# EAGLE library part WE-POE_EP10 (library wurth_elektronik_passive_rev16d)
Power over Ethernet Transformer Characteristics Flyback transformer designed for PoE PDs Input voltage: 36 V to 57 V Switching frequencies: 200–500 kHz Operating temperature: –40 ºC to +125 ºC Insulation test voltage: 1.5 kVAC/1 min Different output powers and voltages available Applications Suitable for PoE IC’s like LTC4267, TPS 23750, TPS 23770, LM5070, LM 5071, LM 5072 <http://katalog.we-online.de/media/images/eisos/UtPOE_MID_pf2.jpg> Details see: http://katalog.we-online.de/en/pbs/WE-PoE? Updated by Dan Xu 2014-07-08 2014 (C) Wurth Elektronik
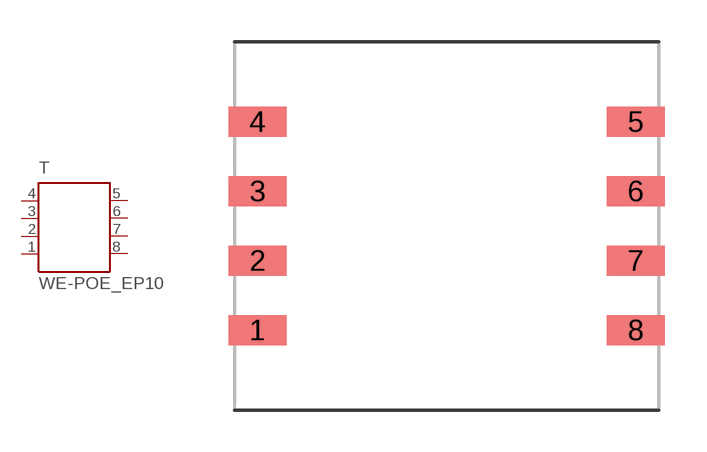
[diagram p24: symbol with the pads of WE_EP10_SMD_8PIN; footprint WE_EP10_SMD_8PIN]

Designator prefix T

## WE-POE_EP10  [WE_EP10_SMD_8PIN]
1  1  pas
2  2  pas
3  3  pas
4  4  pas
5  5  pas
6  6  pas
7  7  pas
8  8  pas

## Footprint WE_EP10_SMD_8PIN (pad centres in mm)
Transformer, EP10 SMD 8 Pin
smd 2.08 x 1.07: 1 -6.78,-3.735; 2 -6.78,-1.245; 3 -6.78,1.245; 4 -6.78,3.735; 5 6.78,3.735; 6 6.78,1.245; 7 6.78,-1.245; 8 6.78,-3.735